# Altium footprint library My Arduino Nano.PcbLib: 5 footprints
Each footprint in its own frame and in the unit in brackets; x right, y up, seen from the top. Pads: shape width x height; smd on the part's side, far side on the other; paste and mask are expansions set on the pad; w line width, h text height; cw(c..) or ccw(c..) is an arc to the next point about the centre after c.
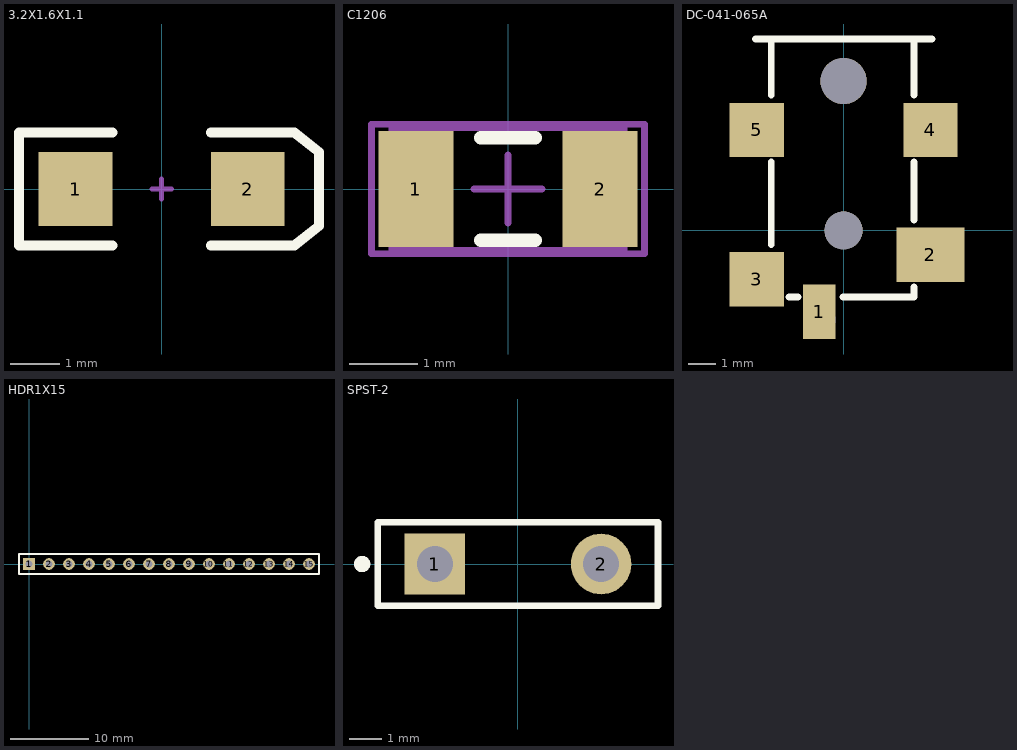
[diagram p0: the footprints below, top view; thin cyan lines are the x and y axes]

## 3.2X1.6X1.1 [mm]
pads (2):
  rect 1.5x1.5 smd: 1(-1.75,0) 2(1.75,0)
Top Overlay:
  lines w0.2: -1,-1.15 -2.9,-1.15 -2.9,1.15 -1,1.15 ; 1,-1.15 2.7,-1.15 3.2,-0.75 3.2,0.75 2.7,1.15 1,1.15
Mechanical 1:
  lines w0.1: -0.2,0 0.2,0 ; 0,-0.2 0,0.2

## C1206 [mm]
pads (2):
  rect 1.1x1.7 smd: 1(-1.35,0) 2(1.35,0)
Top Overlay:
  lines w0.2: -0.4,-0.75 0.4,-0.75 ; -0.4,0.75 0.4,0.75
Mechanical 13:
  lines w0.1: -1.7,-0.9 1.7,-0.9 1.7,0.9 -1.7,0.9 -1.7,-0.9
Mechanical 15:
  lines w0.1: -0.5,0 0.5,0 ; 0,-0.5 0,0.5 ; -2,-0.95 2,-0.95 2,0.95 -2,0.95 -2,-0.95
3D body: height 1.3, standoff 0, extent -1.7,-0.9 1.7,0.9

## DC-041-065A [mm]
pads (7):
  rect 1.2x2 smd: 1(-0.9,-3.002)
  rect 2.5x2 smd: 2(3.2,-0.9)
  rect 2x2 smd: 3(-3.2,-1.8) 4(3.2,3.7) 5(-3.2,3.7)
  round 1.4 hole 1.4 unplated: ""(0,0)
  round 1.7 hole 1.7 unplated: ""(0,5.5)
Top Overlay:
  lines w0.254: -3.25,7.05 3.25,7.05 ; -2.665,-0.519 -2.665,2.519 ; -2.665,4.981 -2.665,7.05 ; -2.65,7.05 2.549,7.05 ; -2.019,-2.45 -1.681,-2.45 ; -0.019,-2.45 2.59,-2.45 2.59,-2.081 ; 2.59,0.381 2.59,2.519 ; 2.59,4.981 2.59,7.05
Mechanical 15:
  circle w0.6: c-0.9,-3.3 r0.3
3D body "OBJ_NEW_PCB.stp": height 0, standoff 0, extent -2550,-2542 -2550,-2542
3D body "OBJ_NEW_PCB.stp": height 0, standoff 0, extent -2545,-2551 -2545,-2551
3D body "OBJ_NEW_PCB.stp": height 0, standoff 0, extent -2546,-2546 -2546,-2546
3D body "OBJ_NEW_PCB.stp": height 0, standoff 0, extent -2543,-2546 -2543,-2546
3D body "OBJ_NEW_PCB.stp": height 0, standoff 0, extent -2537,-2552 -2537,-2552
3D body "OBJ_NEW_PCB.stp": height 0, standoff 0, extent -2525,-2532 -2525,-2532
3D body "OBJ_NEW_PCB.stp": height 0, standoff 0, extent -2515,-2550 -2515,-2550
3D body "OBJ_NEW_PCB.stp": height 0, standoff 0, extent -1270,-1266 -1270,-1266

## HDR1X15 [mm]
pads (15):
  rect 1.5x1.5 hole 0.9: 1(0,0)
  round 1.5 hole 0.9: 2(2.54,0) 3(5.08,0) 4(7.62,0) 5(10.16,0) 6(12.7,0) 7(15.24,0) 8(17.78,0) 9(20.32,0) 10(22.86,0) 11(25.4,0) 12(27.94,0) 13(30.48,0) 14(33.02,0) 15(35.56,0)
Top Overlay:
  lines w0.2: -1.27,-1.27 36.83,-1.27 36.83,1.27 0.635,1.27 -1.27,1.27 -1.27,-1.27

## SPST-2 [mm]
pads (2):
  rect 1.85x1.85 hole 1.1: 1(-2.54,0)
  round 1.85 hole 1.1: 2(2.54,0)
Top Overlay:
  circle w0.25: c-4.761,-0.001 r0.125
  lines w0.2: -4.28,-1.27 4.28,-1.27 4.28,1.27 -4.28,1.27 -4.28,-1.27